# EAGLE library part 39501-1009 (library parts)
Pluggable Terminal Blocks EURO 3.5MM 9 CIRCUIT VERT PCB HEADER Source: Datasheet <https://www.molex.com/pdm_docs/sd/395011009_sd.pdf>
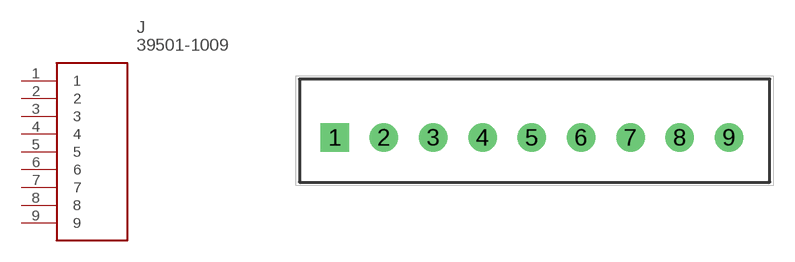
[diagram p0: symbol with the pads of SHDR9W80P0X350_1X9_3290X690X96; footprint SHDR9W80P0X350_1X9_3290X690X96]

Designator prefix J

## 39501-1009 (DESCRIPTION: Pluggable Terminal Blocks EURO 3.5MM 9 CIRCUIT VERT PCB HEADER; HEIGHT: 9.6mm; MANUFACTURER_NAME: Molex; MANUFACTURER_PART_NUMBER: 39501-1009; MOUSER_PART_NUMBER: 538-39501-1009; MOUSER_PRICE-STOCK: https://www.mouser.com/Search/Refine.aspx?Keyword=538-39501-1009)  [SHDR9W80P0X350_1X9_3290X690X96]
1  1
2  2
3  3
4  4
5  5
6  6
7  7
8  8
9  9

## Footprint SHDR9W80P0X350_1X9_3290X690X96 (pad centres in mm)
HEADER 1X9
drill 1.35 pad 2.025 square: 1 0,0
drill 1.35 pad 2.025: 2 3.5,0; 3 7,0; 4 10.5,0; 5 14,0; 6 17.5,0; 7 21,0; 8 24.5,0; 9 28,0